# Altium footprint library ON_OFF_FastCharger.PcbLib: 15 footprints
Each footprint in its own frame and in the unit in brackets; x right, y up, seen from the top. Pads: shape width x height; smd on the part's side, far side on the other; paste and mask are expansions set on the pad; w line width, h text height; cw(c..) or ccw(c..) is an arc to the next point about the centre after c.
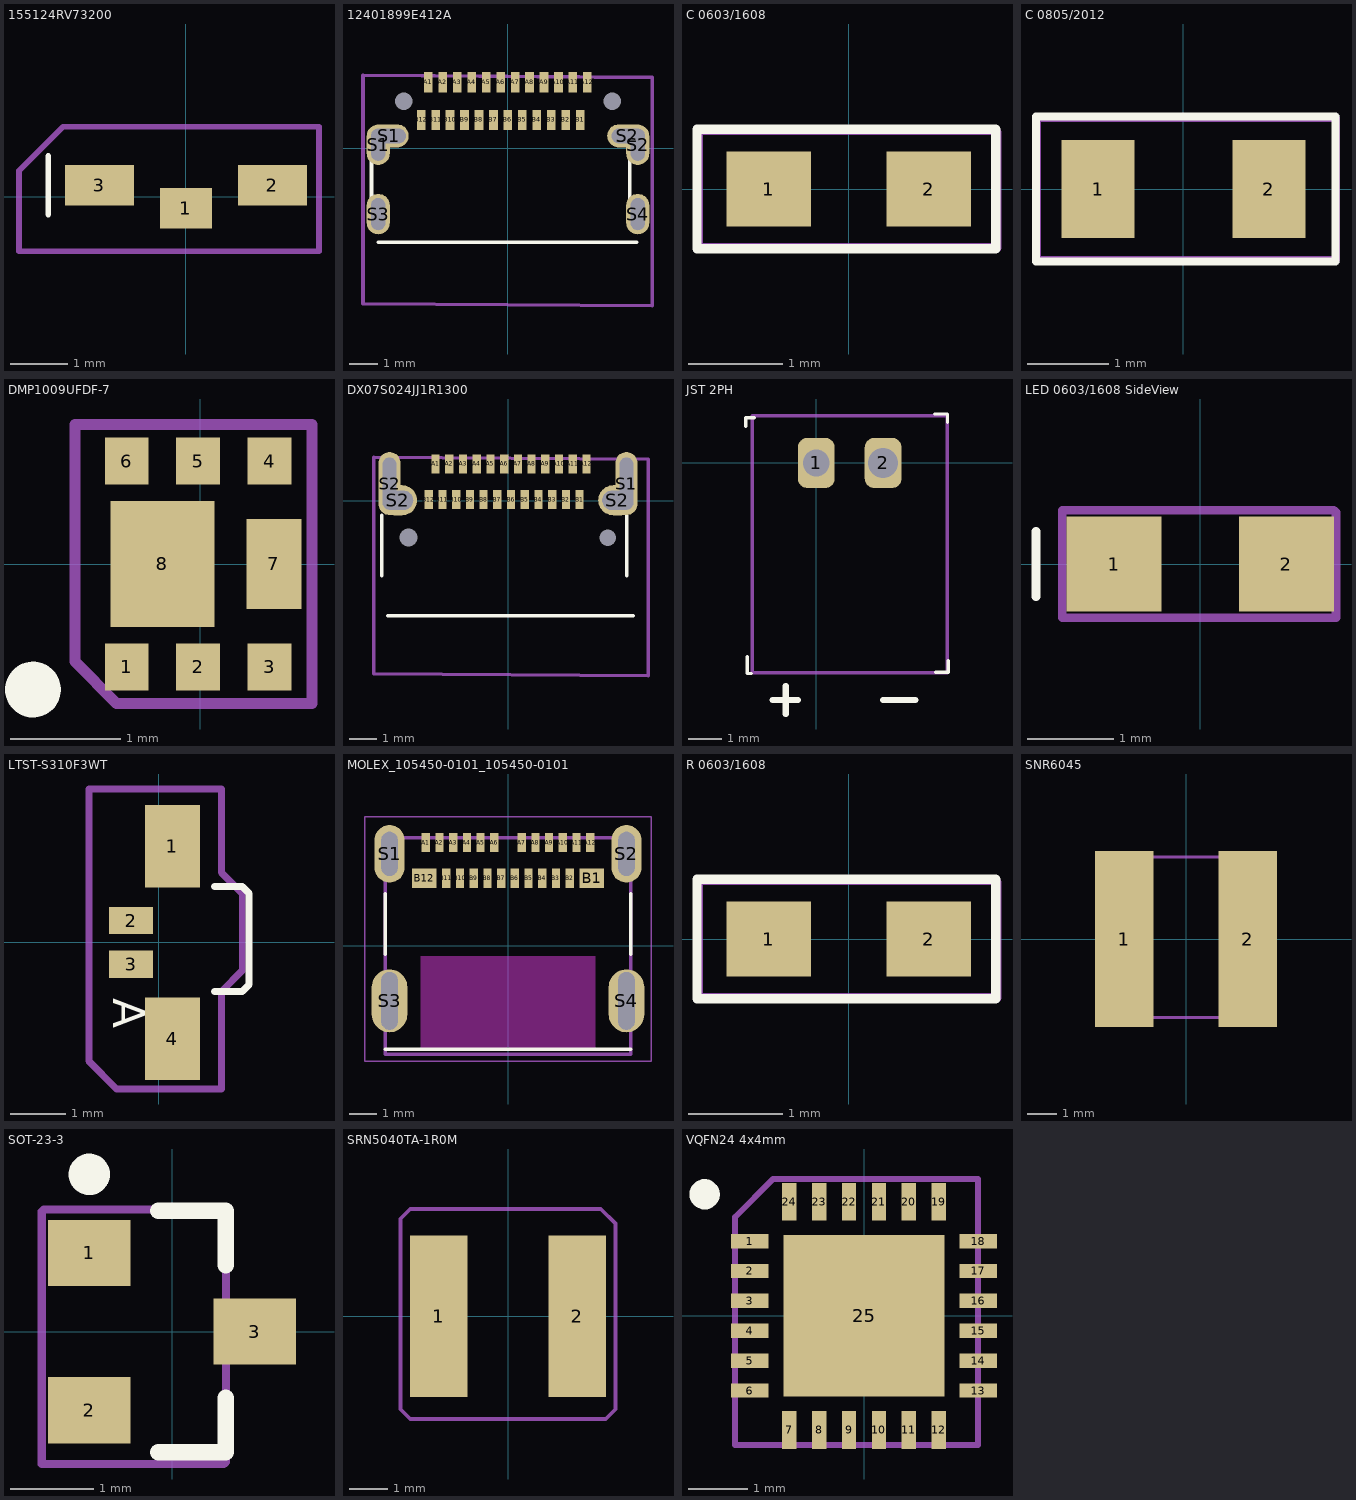
[diagram p0: the footprints below, top view; thin cyan lines are the x and y axes]

## 155124RV73200 [mm]
pads (3):
  rect 0.9x0.7 smd: 1(0,-0.2)
  rect 1.2x0.7 smd: 2(1.5,0.2) 3(-1.5,0.2)
Top Overlay:
  lines w0.1: -2.389,-0.308 -2.389,0.708
Mechanical 29:
  lines w0.1: -2.897,-0.943 -2.897,0.454 -2.135,1.216 2.31,1.216 2.31,-0.943 -1.881,-0.943 -2.897,-0.943
  text ".Designator" at -2.389,-0.689 h1
3D body "STEP-WL-SBSW-1204-rev1.stp": height 1, standoff 0, extent -1.6,0.058 1.6,1.558

## 12401899E412A [mm]
pads (32):
  rect 0.3x0.7 smd: A1(-2.754,2.28) A2(-2.254,2.28) A3(-1.754,2.28) A4(-1.254,2.28) A5(-0.754,2.28) A6(-0.254,2.28) A7(0.246,2.28) A8(0.746,2.28) A9(1.246,2.28) A10(1.746,2.28) A11(2.246,2.28) A12(2.746,2.28) B1(2.496,0.98) B2(1.996,0.98) B3(1.496,0.98) B4(0.996,0.98) B5(0.496,0.98) B6(-0.004,0.98) B7(-0.504,0.98) B8(-1.004,0.98) B9(-1.504,0.98) B10(-2.004,0.98) B11(-2.504,0.98) B12(-3.004,0.98)
  oval 0.8x1.4 hole 0.5 slot 1.1 at 90 deg: S1(-4.49,0.12) S2(4.49,0.12) S3(-4.49,-2.28) S4(4.49,-2.28)
  oval 1.4x0.8 hole 0.5 slot 1.2 at 0 deg: S1(-4.134,0.425)
  oval 1.4x0.8 hole 0.5 slot 1.1 at 0 deg: S2(4.134,0.425)
  round 0 hole 0.6: ""(-3.604,1.62) ""(3.604,1.62)
Top Overlay:
  lines w0.127: -4.724,-1.79 -4.724,0.41 ; -4.49,-3.251 4.45,-3.251 ; 4.216,-1.79 4.216,0.41
Mechanical 29:
  lines w0.127: -5.016,-5.376 4.991,-5.453 ; -5.016,-5.376 4.991,-5.453 ; -5.016,-5.376 -5.016,2.524 ; -5.016,2.524 4.991,2.447 ; -5.016,2.524 4.991,2.447 ; 4.991,-5.453 4.991,2.447
  text ".Designator" at -4.204,-2.527 h1
3D body "12401899.stp": height 3.44, standoff -0.91, extent -4.591,-7.07 4.589,2.58

## C 0603/1608 [mm]
pads (2):
  rect 0.9x0.8 smd: 1(-0.85,0) 2(0.85,0)
Top Overlay:
  lines w0.1: -1.612,-0.635 1.563,-0.635 1.563,0.635 -1.612,0.635 -1.612,-0.635
Mechanical 29:
  lines w0.1: -1.6,-0.625 1.575,-0.625 1.575,0.6 1.55,0.625 -1.6,0.625 -1.6,-0.625
  text ".Designator" at -1.4,-0.4 h0.8
3D body: height 0.64, standoff 0, extent 0.85,-0.4 1.3,0.4
3D body: height 0.64, standoff 0, extent -1.3,-0.4 -0.85,0.4
3D body: height 0.64, standoff 0, extent -0.85,-0.4 0.85,0.4

## C 0805/2012 [mm]
pads (2):
  rect 0.9x1.2 smd: 1(-1.05,0) 2(1.05,0)
Top Overlay:
  lines w0.1: -1.812,-0.889 -1.812,0.889 1.871,0.889 1.871,-0.889 -1.812,-0.889
Mechanical 29:
  lines w0.1: -1.8,-0.875 -1.8,0.85 -1.775,0.875 1.875,0.875 1.875,-0.875 -1.8,-0.875
  text ".Designator" at -1.675,-0.55 h1
3D body: height 0.64, standoff 0, extent 1.1,-0.6 1.5,0.6
3D body: height 0.64, standoff 0, extent -1.5,-0.6 -1.05,0.6
3D body: height 0.64, standoff 0, extent -1.05,-0.6 1.1,0.6

## DMP1009UFDF-7 [mm]
pads (8):
  rect 0.4x0.425 smd: 1(-0.67,-0.937) 2(-0.02,-0.937) 3(0.63,-0.937) 4(0.63,0.938) 5(-0.02,0.938) 6(-0.67,0.938)
  rect 0.5x0.82 smd: 7(0.67,0)
  rect 0.95x1.15 smd: 8(-0.345,0)
Top Overlay:
  circle w0.254: c-1.524,-1.143 r0.127
Mechanical 29:
  lines w0.1: -1.143,-0.889 -1.143,1.27 1.016,1.27 1.016,-1.27 -0.762,-1.27 -1.143,-0.889
  text ".Designator" at -1.143,-0.508 h1
3D body "User Library-SOT1118 DFN2020-6.step": height 0.65, standoff 0, extent -1.004,-1.016 1.004,1.064

## DX07S024JJ1R1300 [mm]
pads (30):
  rect 0.3x0.7 smd: A1(-2.639,1.343) A2(-2.139,1.343) A3(-1.639,1.343) A4(-1.139,1.343) A5(-0.639,1.343) A6(-0.139,1.343) A7(0.361,1.343) A8(0.861,1.343) A9(1.361,1.343) A10(1.861,1.343) A11(2.361,1.343) A12(2.861,1.343) B1(2.611,0.043) B2(2.111,0.043) B3(1.611,0.043) B4(1.111,0.043) B5(0.611,0.043) B6(0.111,0.043) B7(-0.389,0.043) B8(-0.889,0.043) B9(-1.389,0.043) B10(-1.889,0.043) B11(-2.389,0.043) B12(-2.889,0.043)
  oval 0.8x2.3 hole 0.5 slot 1.9 at 90 deg: S1(4.319,0.625) S2(-4.319,0.625)
  oval 1.4x1.1 hole 0.7 slot 1.1 at 0 deg: S2(-4.013,0.016) S2(3.988,0.016)
  round 0 hole 0.65: ""(-3.632,-1.343)
  round 0 hole 0.6: ""(3.632,-1.343)
Top Overlay:
  lines w0.127: -4.609,-2.727 -4.609,-0.527 ; -4.375,-4.188 4.565,-4.188 ; 4.331,-2.727 4.331,-0.527
Mechanical 29:
  lines w0.127: -4.901,-6.313 5.105,-6.389 ; -4.901,-6.313 5.105,-6.389 ; -4.901,-6.313 -4.901,1.587 ; -4.901,1.587 5.105,1.511 ; -4.901,1.587 5.105,1.511 ; 5.105,-6.389 5.105,1.511
  text ".Designator" at -4.089,-3.464 h1
3D body "K3D-DX07S024JJ1-V4_JAE_Proprietary.STEP": height 3.17, standoff -0.6, extent -4.495,-6.703 4.445,1.467

## JST 2PH [mm]
pads (2):
  rrect50% 1.1x1.5 hole 0.8: 1(0,0)
  rrect50% 1.1x1.5 hole 0.9: 2(2,0)
Top Overlay:
  lines w0.1: -2.112,1.098 -2.112,1.352 -1.858,1.352 ; -2.07,-5.791 -2.07,-6.299 -1.943,-6.299 ; 3.547,1.466 3.928,1.466 3.928,1.212 ; 3.569,-6.261 3.95,-6.261 3.95,-5.918
  lines w0.18: -1.308,-7.099 -0.546,-7.099 ; -0.914,-7.513 -0.914,-6.68 ; 2,-7.099 2.972,-7.099
Mechanical 29:
  lines w0.1: -1.921,-6.274 -1.921,1.41 3.924,1.41 3.924,-6.274 -1.921,-6.274
  text ".Designator" at 1.651,-5.309 h1
3D body "User Library-S2B.step": height 5.8, standoff -2.4, extent -1.985,-6.21 3.915,1.39

## LED 0603/1608 SideView [mm]
pads (2):
  rect 1.1x1.1 smd: 1(-1,0) 2(1,0)
Top Overlay:
  lines w0.1: -1.905,-0.381 -1.905,0.381
Mechanical 29:
  lines w0.1: -1.6,-0.625 -1.6,0.625 1.55,0.625 1.575,0.6 1.575,-0.625 -1.6,-0.625
  text ".Designator" at -1.425,-0.4 h0.8
3D body "User Library-LTST-S270KRKT.step": height 0.6, standoff 0, extent -0.825,-1.023 0.825,0.127

## LTST-S310F3WT [mm]
pads (4):
  rect 1x1.5 smd: 1(0.254,1.75) 4(0.254,-1.75)
  rect 0.8x0.5 smd: 2(-0.5,0.4) 3(-0.5,-0.4)
Top Overlay:
  lines w0.127: 1.016,-0.889 1.524,-0.889 1.651,-0.762 1.651,0.889 1.524,1.016 1.016,1.016
  text "A" at -1.016,-1.016 h1
Mechanical 29:
  lines w0.127: -1.27,-2.159 -0.762,-2.667 1.143,-2.667 1.143,-0.889 1.524,-0.508 1.524,0.889 1.143,1.27 1.143,2.794 -1.27,2.794 -1.27,-2.159
  text ".Designator" at 0.508,-2.159 h1

## MOLEX_105450-0101_105450-0101 [mm]
pads (28):
  rect 0.3x0.7 smd: A1(-3,3.77) A2(-2.5,3.77) A3(-2,3.77) A4(-1.5,3.77) A5(-1,3.77) A6(-0.5,3.77) A7(0.5,3.77) A8(1,3.77) A9(1.5,3.77) A10(2,3.77) A11(2.5,3.77) A12(3,3.77) B2(2.25,2.47) B3(1.75,2.47) B4(1.25,2.47) B5(0.75,2.47) B6(0.25,2.47) B7(-0.25,2.47) B8(-0.75,2.47) B9(-1.25,2.47) B10(-1.75,2.47) B11(-2.25,2.47)
  rect 0.9x0.7 smd: B1(3.05,2.47) B12(-3.05,2.47)
  oval 1.1x2.1 hole 0.6 slot 1.6 at 90 deg: S1(-4.32,3.36) S2(4.32,3.36)
  oval 1.3x2.3 hole 0.6 slot 2.1 at 90 deg: S3(-4.32,-2) S4(4.32,-2)
Top Overlay:
  lines w0.127: -4.47,-3.77 4.47,-3.77 ; -4.47,-0.3 -4.47,1.9 ; 4.47,-0.3 4.47,1.9
Keep-Out Layer:
  region: -3.175,-0.381 3.175,-0.381 3.175,-3.771 -3.175,-3.771
Mechanical 1:
  lines w0: -4.62,-2.75 ccw(c-4.32,-2.75) -4.32,-3.05 ccw(c-4.32,-2.75) -4.02,-2.75 -4.02,-1.25 ccw(c-4.32,-1.25) -4.32,-0.95 ccw(c-4.32,-1.25) -4.62,-1.25 -4.62,-2.75 ; -4.62,2.86 ccw(c-4.32,2.86) -4.32,2.56 ccw(c-4.32,2.86) -4.02,2.86 -4.02,3.86 ccw(c-4.32,3.86) -4.32,4.16 ccw(c-4.32,3.86) -4.62,3.86 -4.62,2.86 ; 4.02,-2.75 ccw(c4.32,-2.75) 4.32,-3.05 ccw(c4.32,-2.75) 4.62,-2.75 4.62,-1.25 ccw(c4.32,-1.25) 4.32,-0.95 ccw(c4.32,-1.25) 4.02,-1.25 4.02,-2.75 ; 4.02,2.86 ccw(c4.32,2.86) 4.32,2.56 ccw(c4.32,2.86) 4.62,2.86 4.62,3.86 ccw(c4.32,3.86) 4.32,4.16 ccw(c4.32,3.86) 4.02,3.86 4.02,2.86
Mechanical 16:
  lines w0.05: -5.22,-4.2 5.22,-4.2 5.22,4.71 -5.22,4.71 -5.22,-4.2
Mechanical 29:
  lines w0.127: -4.47,-3.95 -4.47,3.95 ; -4.47,-3.95 -4.47,3.95 ; -4.47,-3.95 4.47,-3.95 ; -4.47,-3.95 4.47,-3.95 ; -4.47,3.95 4.47,3.95 ; -4.47,3.95 4.47,3.95 ; 4.47,-3.95 4.47,3.95 ; 4.47,-3.95 4.47,3.95
  text ".Designator" at -1.143,-0.889 h1
3D body "1054500101.stp": height 3.23, standoff -0.73, extent -4.495,-3.95 4.445,3.95

## R 0603/1608 [mm]
pads (2):
  rect 0.9x0.8 smd: 1(-0.85,0) 2(0.85,0)
Top Overlay:
  lines w0.1: -1.612,-0.635 -1.612,0.635 1.563,0.635 1.563,-0.635 -1.612,-0.635
Mechanical 29:
  lines w0.1: -1.6,-0.625 -1.6,0.625 1.55,0.625 1.575,0.6 1.575,-0.625 -1.6,-0.625
  text ".Designator" at -1.425,-0.4 h0.8
3D body: height 0.64, standoff 0, extent -0.85,-0.4 0.85,0.4
3D body: height 0.64, standoff 0, extent -1.3,-0.4 -0.85,0.4
3D body: height 0.64, standoff 0, extent 0.85,-0.4 1.3,0.4

## SNR6045 [mm]
pads (2):
  rect 2x6 smd: 1(-2.1,0) 2(2.1,0)
Mechanical 29:
  lines w0.1: -2.794,-2.413 -2.54,-2.667 2.54,-2.667 2.794,-2.413 2.794,2.413 2.413,2.794 -2.54,2.794 -2.794,2.54 -2.794,-2.413
  text ".Designator" at -0.762,-0.889 h1
3D body "User Library-SRN6045TA Series.step": height 4.2, standoff 0, extent -3.051,-3 2.949,3

## SOT-23-3 [mm] "SOT23, 3-Leads, Body 2.92x1.3mm, Pitch 0.95mm"
height 1.11
pads (3):
  rect 1x0.8 smd: 1(-1,0.95) 2(-1,-0.95) 3(1,0)
Top Overlay:
  circle w0.25: c-1,1.9 r0.125
  lines w0.2: -0.165,-1.46 0.65,-1.46 0.65,-0.8 ; -0.165,1.46 0.65,1.46 0.65,0.8
Mechanical 29:
  lines w0.1: -1.575,-1.6 -1.575,1.45 -1.55,1.475 0.65,1.475 0.65,-1.575 0.625,-1.6 -1.575,-1.6
  text ".Designator" at -0.8,1.125 h1
3D body "SOT23-3.step": height 1.3, standoff 0, extent -1.4,-1.45 1.4,1.45

## SRN5040TA-1R0M [mm]
pads (2):
  rect 1.5x4.2 smd: 1(-1.8,0) 2(1.8,0)
Mechanical 29:
  lines w0.1: -2.794,-2.413 -2.794,2.54 -2.54,2.794 2.413,2.794 2.794,2.413 2.794,-2.413 2.54,-2.667 -2.54,-2.667 -2.794,-2.413
  text ".Designator" at -0.762,-0.889 h1
3D body "User Library-SRN5040.step": height 4, standoff 0, extent -2.5,-2.5 2.5,2.5

## VQFN24 4x4mm [mm]
pads (25):
  rect 0.63x0.24 smd: 1(-1.91,1.25) 2(-1.91,0.75) 3(-1.91,0.25) 4(-1.91,-0.25) 5(-1.91,-0.75) 6(-1.91,-1.25) 13(1.91,-1.25) 14(1.91,-0.75) 15(1.91,-0.25) 16(1.91,0.25) 17(1.91,0.75) 18(1.91,1.25)
  rect 0.24x0.63 smd: 7(-1.25,-1.91) 8(-0.75,-1.91) 9(-0.25,-1.91) 10(0.25,-1.91) 11(0.75,-1.91) 12(1.25,-1.91) 19(1.25,1.91) 20(0.75,1.91) 21(0.25,1.91) 22(-0.25,1.91) 23(-0.75,1.91) 24(-1.25,1.91)
  rect 2.7x2.7 smd: 25(0,0)
Top Overlay:
  circle w0.254: c-2.667,2.032 r0.127
Mechanical 29:
  lines w0.1: -2.159,-2.159 -2.159,1.651 -1.524,2.286 -1.397,2.286 1.905,2.286 1.905,-2.159 -2.159,-2.159
  text ".Designator" at -0.635,-0.635 h1
3D body "User Library-QFN 24 4x4.step": height 0.9, standoff 0, extent -2.002,-2.002 2.002,2.002